# Altium integrated library Zarlink Logic Switch.IntLib: 25 symbols
Pins are listed as number, name and electrical type; pins without a type are passive.

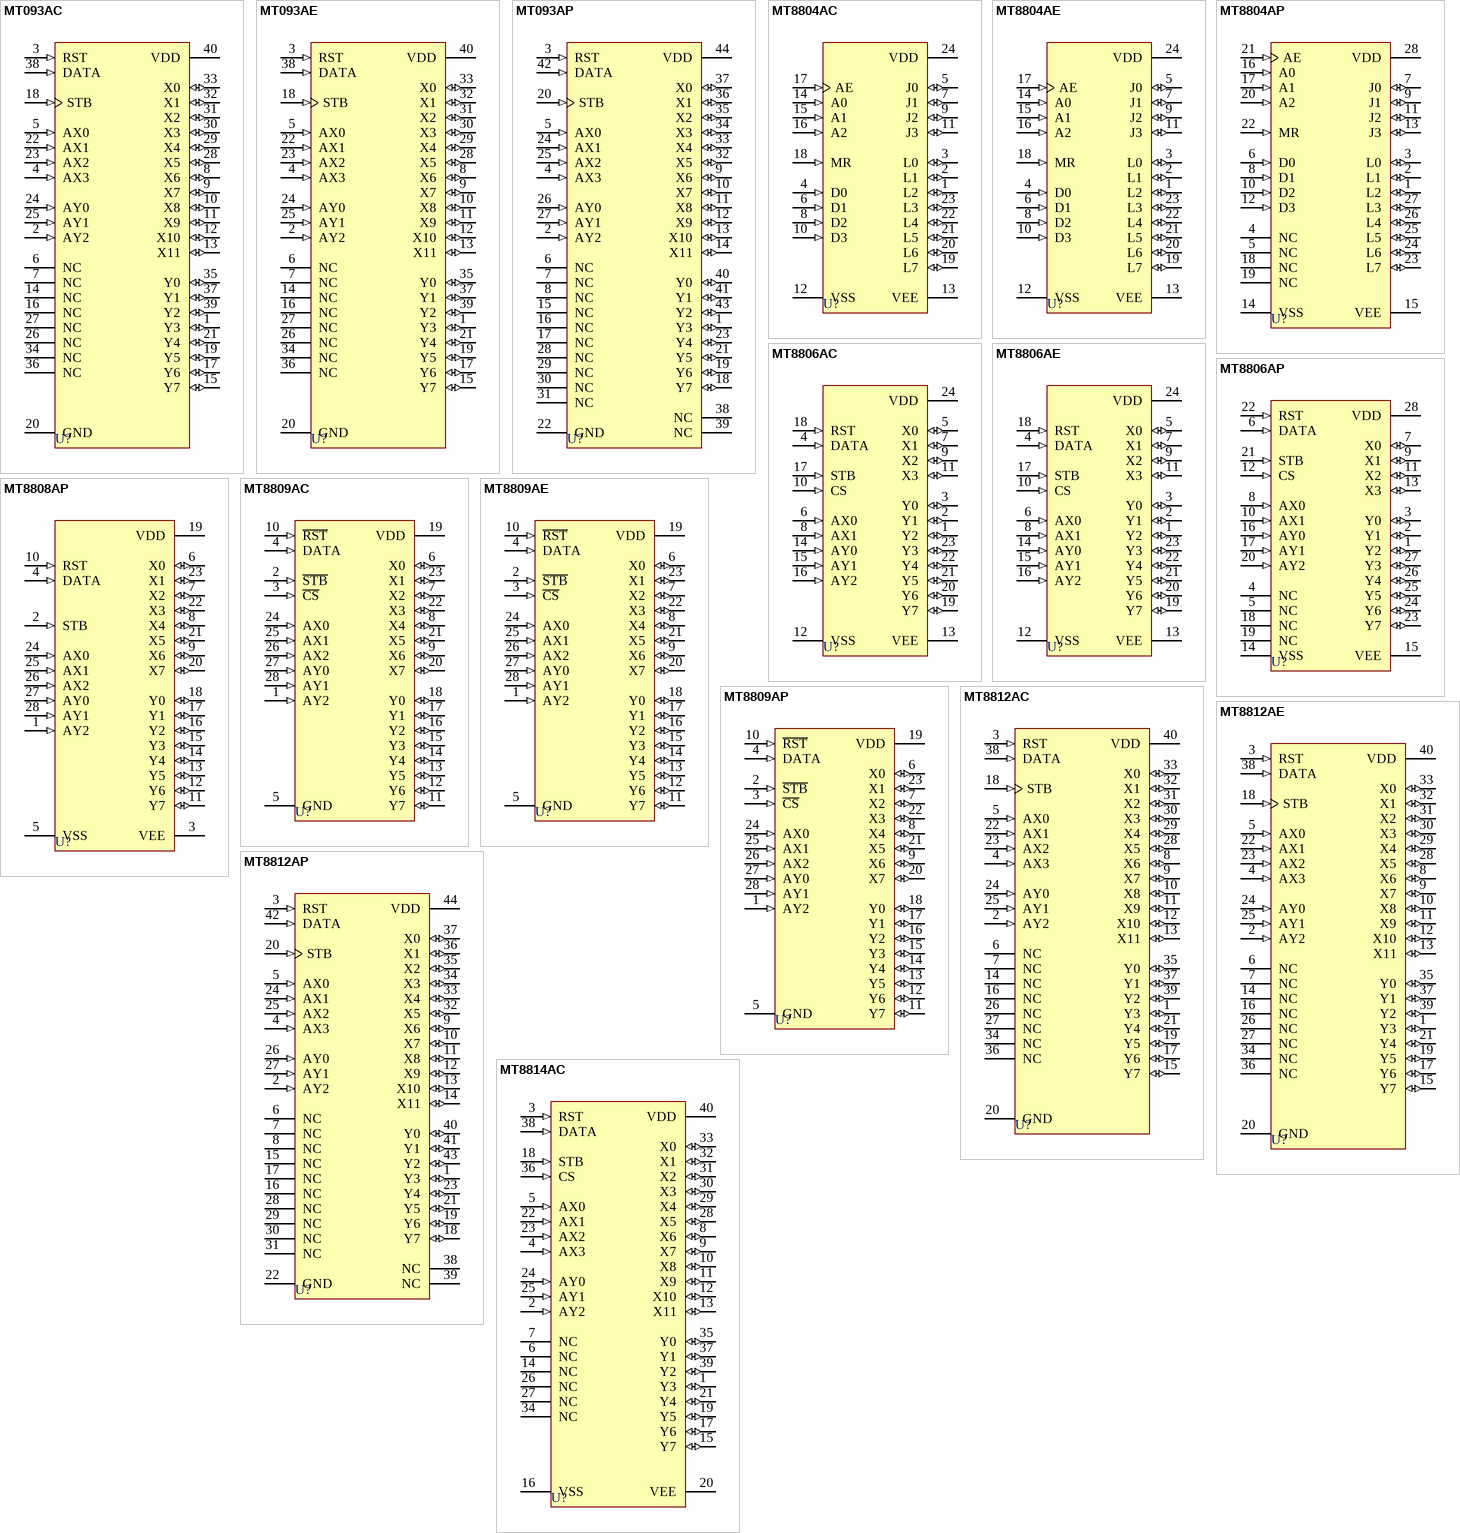
[diagram p0: symbols MT093AC to MT8814AC]

## MT093AC
designator U?
8 X 12 Analog Switch Array; Published: 8-Jun-2000; LatestRevisionDate: 17-Jul-2002; LatestRevisionNote: Re-released for DXP Platform.; DatasheetVersion: Issue 1 January 1990; PackageVersion: 1995; PackageReference: CDIP40; Publisher: Altium Limited; PackageDescription: DIP; 40 Leads; Row Spacing 15.24 mm; Pitch 2.54 mm; Code_JEDEC: MS-011-AC; ComponentLink1Description: Manufacturer Link; ComponentLink1URL: http://products.zarlink.com
footprint CDIP40 (DIP; 40 Leads; Row Spacing 15.24 mm; Pitch 2.54 mm)
pins: 1 Y3 (io), 2 AY2 (in), 3 RST (in), 4 AX3 (in), 5 AX0 (in), 6 NC, 7 NC, 8 X6 (io), 9 X7 (io), 10 X8 (io), 11 X9 (io), 12 X10 (io), 13 X11 (io), 14 NC, 15 Y7 (io), 16 NC, 17 Y6 (io), 18 STB (in), 19 Y5 (io), 20 GND (power), 21 Y4 (io), 22 AX1 (in), 23 AX2 (in), 24 AY0 (in), 25 AY1 (in), 26 NC, 27 NC, 28 X5 (io), 29 X4 (io), 30 X3 (io), 31 X2 (io), 32 X1 (io), 33 X0 (io), 34 NC, 35 Y0 (io), 36 NC, 37 Y1 (io), 38 DATA (in), 39 Y2 (io), 40 VDD (power)

## MT093AE
designator U?
8 X 12 Analog Switch Array; Published: 8-Jun-2000; LatestRevisionDate: 17-Jul-2002; LatestRevisionNote: Re-released for DXP Platform.; DatasheetVersion: Issue 1 January 1990; PackageVersion: 1997; PackageReference: PDIP40; Publisher: Altium Limited; PackageDescription: DIP; 40 Leads; Row Spacing 15.24 mm; Pitch 2.54 mm; Code_JEDEC: MS-011-AC; ComponentLink1Description: Manufacturer Link; ComponentLink1URL: http://products.zarlink.com
footprint PDIP40 (DIP; 40 Leads; Row Spacing 15.24 mm; Pitch 2.54 mm)
pins: 1 Y3 (io), 2 AY2 (in), 3 RST (in), 4 AX3 (in), 5 AX0 (in), 6 NC, 7 NC, 8 X6 (io), 9 X7 (io), 10 X8 (io), 11 X9 (io), 12 X10 (io), 13 X11 (io), 14 NC, 15 Y7 (io), 16 NC, 17 Y6 (io), 18 STB (in), 19 Y5 (io), 20 GND (power), 21 Y4 (io), 22 AX1 (in), 23 AX2 (in), 24 AY0 (in), 25 AY1 (in), 26 NC, 27 NC, 28 X5 (io), 29 X4 (io), 30 X3 (io), 31 X2 (io), 32 X1 (io), 33 X0 (io), 34 NC, 35 Y0 (io), 36 NC, 37 Y1 (io), 38 DATA (in), 39 Y2 (io), 40 VDD (power)

## MT093AP
designator U?
8 X 12 Analog Switch Array; Published: 8-Jun-2000; LatestRevisionDate: 13-Apr-2006; LatestRevisionNote: IPC-7351 Footprint Added.; DatasheetVersion: Issue 1 January 1990; PackageVersion: 1997; PackageReference: PLCC44; Publisher: Altium Limited; PackageDescription: 44-Pin Leaded Chip Carrier 1.27 mm Pitch; Code_IPC: PLCC-44; ComponentLink1Description: Manufacturer Link; ComponentLink1URL: http://products.zarlink.com
footprint PLCC44_N (Leaded Chip Carrier, 44-Leads, Body 16.6x16.6mm, Pitch 1.27mm, IPC Medium Density)
footprint PLCC44_L (Leaded Chip Carrier, 44-Leads, Body 16.6x16.6mm, Pitch 1.27mm, IPC High Density)
footprint PLCC44_M (Leaded Chip Carrier, 44-Leads, Body 16.6x16.6mm, Pitch 1.27mm, IPC Low Density)
pins: 1 Y3 (io), 2 AY2 (in), 3 RST (in), 4 AX3 (in), 5 AX0 (in), 6 NC, 7 NC, 8 NC, 9 X6 (io), 10 X7 (io), 11 X8 (io), 12 X9 (io), 13 X10 (io), 14 X11 (io), 15 NC, 16 NC, 17 NC, 18 Y7 (io), 19 Y6 (io), 20 STB (in), 21 Y5 (io), 22 GND (power), 23 Y4 (io), 24 AX1 (in), 25 AX2 (in), 26 AY0 (in), 27 AY1 (in), 28 NC, 29 NC, 30 NC, 31 NC, 32 X5 (io), 33 X4 (io), 34 X3 (io), 35 X2 (io), 36 X1 (io), 37 X0 (io), 38 NC, 39 NC, 40 Y0 (io), 41 Y1 (io), 42 DATA (in), 43 Y2 (io), 44 VDD (power)

## MT8804AC
designator U?
8 X 4 Analog Switch Array; ComponentAvailability: Not for New Design; Published: 8-Jun-2000; LatestRevisionDate: 17-Jul-2002; LatestRevisionNote: Re-released for DXP Platform.; DatasheetVersion: Issue 2 October 1989; PackageVersion: 1995; PackageReference: CDIP24; Publisher: Altium Limited; PackageDescription: DIP; 24 Leads; Row Spacing 15.24 mm; Pitch 2.54 mm; Code_JEDEC: MS-011-AA; ComponentLink1Description: Manufacturer Link; ComponentLink1URL: http://products.zarlink.com; ComponentLink2Description: Datasheet; ComponentLink2URL: http://assets.zarlink.com/DS/zarlink_MT8804A_MAR_97.pdf; ComponentLink3Description: Discontinuation Notice; ComponentLink3URL: http://assets.zarlink.com/OC/MT8804_Obsolescence_Notice___Customer.doc
footprint CDIP24 (DIP; 24 Leads; Row Spacing 15.24 mm; Pitch 2.54 mm)
pins: 1 L2 (io), 2 L1 (io), 3 L0 (io), 4 D0 (in), 5 J0 (io), 6 D1 (in), 7 J1 (io), 8 D2 (in), 9 J2 (io), 10 D3 (in), 11 J3 (io), 12 VSS (power), 13 VEE (power), 14 A0 (in), 15 A1 (in), 16 A2 (in), 17 AE (in), 18 MR (in), 19 L7 (io), 20 L6 (io), 21 L5 (io), 22 L4 (io), 23 L3 (io), 24 VDD (power)

## MT8804AE
designator U?
8 X 4 Analog Switch Array; ComponentAvailability: Not for New Design; Published: 8-Jun-2000; LatestRevisionDate: 17-Jul-2002; LatestRevisionNote: Re-released for DXP Platform.; DatasheetVersion: Issue 2 October 1989; PackageVersion: 1997; PackageReference: PDIP24; Publisher: Altium Limited; PackageDescription: DIP; 24 Leads; Row Spacing 15.24 mm; Pitch 2.54 mm; Code_JEDEC: MS-011-AA; ComponentLink1Description: Manufacturer Link; ComponentLink1URL: http://products.zarlink.com; ComponentLink2Description: Datasheet; ComponentLink2URL: http://assets.zarlink.com/DS/zarlink_MT8804A_MAR_97.pdf; ComponentLink3Description: Discontinuation Notice; ComponentLink3URL: http://assets.zarlink.com/OC/MT8804_Obsolescence_Notice___Customer.doc
footprint PDIP24 (DIP; 24 Leads; Row Spacing 15.24 mm; Pitch 2.54 mm)
pins: 1 L2 (io), 2 L1 (io), 3 L0 (io), 4 D0 (in), 5 J0 (io), 6 D1 (in), 7 J1 (io), 8 D2 (in), 9 J2 (io), 10 D3 (in), 11 J3 (io), 12 VSS (power), 13 VEE (power), 14 A0 (in), 15 A1 (in), 16 A2 (in), 17 AE (in), 18 MR (in), 19 L7 (io), 20 L6 (io), 21 L5 (io), 22 L4 (io), 23 L3 (io), 24 VDD (power)

## MT8804AP
designator U?
8 X 4 Analog Switch Array; ComponentAvailability: Not for New Design; Published: 8-Jun-2000; LatestRevisionDate: 13-Apr-2006; LatestRevisionNote: IPC-7351 Footprint Added.; DatasheetVersion: Issue 2 October 1989; PackageVersion: 1997; PackageReference: PLCC28; Publisher: Altium Limited; PackageDescription: 28-Pin Leaded Chip Carrier 1.27 mm Pitch; Code_IPC: PLCC-28; ComponentLink1Description: Manufacturer Link; ComponentLink1URL: http://products.zarlink.com; ComponentLink2Description: Datasheet; ComponentLink2URL: http://assets.zarlink.com/DS/zarlink_MT8804A_MAR_97.pdf; ComponentLink3Description: Discontinuation Notice; ComponentLink3URL: http://assets.zarlink.com/OC/MT8804_Obsolescence_Notice___Customer.doc
footprint PLCC28_N (Leaded Chip Carrier, 28-Leads, Body 11.5x11.5mm, Pitch 1.27mm, IPC Medium Density)
footprint PLCC28_L (Leaded Chip Carrier, 28-Leads, Body 11.5x11.5mm, Pitch 1.27mm, IPC High Density)
footprint PLCC28_M (Leaded Chip Carrier, 28-Leads, Body 11.5x11.5mm, Pitch 1.27mm, IPC Low Density)
pins: 1 L2 (io), 2 L1 (io), 3 L0 (io), 4 NC, 5 NC, 6 D0 (in), 7 J0 (io), 8 D1 (in), 9 J1 (io), 10 D2 (in), 11 J2 (io), 12 D3 (in), 13 J3 (io), 14 VSS (power), 15 VEE (power), 16 A0 (in), 17 A1 (in), 18 NC, 19 NC, 20 A2 (in), 21 AE (in), 22 MR (in), 23 L7 (io), 24 L6 (io), 25 L5 (io), 26 L4 (io), 27 L3 (io), 28 VDD (power)

## MT8806AC
designator U?
8 X 4 Analog Switch Array; Published: 8-Jun-2000; LatestRevisionDate: 17-Jul-2002; LatestRevisionNote: Re-released for DXP Platform.; DatasheetVersion: Issue 2 November 1988; PackageVersion: 1995; PackageReference: CDIP24; Publisher: Altium Limited; PackageDescription: DIP; 24 Leads; Row Spacing 15.24 mm; Pitch 2.54 mm; Code_JEDEC: MS-011-AA; ComponentLink1Description: Manufacturer Link; ComponentLink1URL: http://products.zarlink.com; ComponentLink2Description: Datasheet; ComponentLink2URL: http://assets.zarlink.com/DS/zarlink_MT8806_MAY_05.pdf
footprint CDIP24 (DIP; 24 Leads; Row Spacing 15.24 mm; Pitch 2.54 mm)
pins: 1 Y2 (io), 2 Y1 (io), 3 Y0 (io), 4 DATA (in), 5 X0 (io), 6 AX0 (in), 7 X1 (io), 8 AX1 (in), 9 X2 (io), 10 CS (in), 11 X3 (io), 12 VSS (power), 13 VEE (power), 14 AY0 (in), 15 AY1 (in), 16 AY2 (in), 17 STB (in), 18 RST (in), 19 Y7 (io), 20 Y6 (io), 21 Y5 (io), 22 Y4 (io), 23 Y3 (io), 24 VDD (power)

## MT8806AE
designator U?
8 X 4 Analog Switch Array; Published: 8-Jun-2000; LatestRevisionDate: 17-Jul-2002; LatestRevisionNote: Re-released for DXP Platform.; DatasheetVersion: Issue 2 November 1988; PackageVersion: 1997; PackageReference: PDIP24; Publisher: Altium Limited; PackageDescription: DIP; 24 Leads; Row Spacing 15.24 mm; Pitch 2.54 mm; Code_JEDEC: MS-011-AA; ComponentLink1Description: Manufacturer Link; ComponentLink1URL: http://products.zarlink.com; ComponentLink2Description: Datasheet; ComponentLink2URL: http://assets.zarlink.com/DS/zarlink_MT8806_MAY_05.pdf
footprint PDIP24 (DIP; 24 Leads; Row Spacing 15.24 mm; Pitch 2.54 mm)
pins: 1 Y2 (io), 2 Y1 (io), 3 Y0 (io), 4 DATA (in), 5 X0 (io), 6 AX0 (in), 7 X1 (io), 8 AX1 (in), 9 X2 (io), 10 CS (in), 11 X3 (io), 12 VSS (power), 13 VEE (power), 14 AY0 (in), 15 AY1 (in), 16 AY2 (in), 17 STB (in), 18 RST (in), 19 Y7 (io), 20 Y6 (io), 21 Y5 (io), 22 Y4 (io), 23 Y3 (io), 24 VDD (power)

## MT8806AP
designator U?
8 X 4 Analog Switch Array; Published: 8-Jun-2000; LatestRevisionDate: 13-Apr-2006; LatestRevisionNote: IPC-7351 Footprint Added.; DatasheetVersion: Issue 2 November 1988; PackageVersion: 1997; PackageReference: PLCC28; Publisher: Altium Limited; PackageDescription: 28-Pin Leaded Chip Carrier 1.27 mm Pitch; Code_IPC: PLCC-28; ComponentLink1Description: Manufacturer Link; ComponentLink1URL: http://products.zarlink.com; ComponentLink2Description: Datasheet; ComponentLink2URL: http://assets.zarlink.com/DS/zarlink_MT8806_MAY_05.pdf
footprint PLCC28_N (Leaded Chip Carrier, 28-Leads, Body 11.5x11.5mm, Pitch 1.27mm, IPC Medium Density)
footprint PLCC28_L (Leaded Chip Carrier, 28-Leads, Body 11.5x11.5mm, Pitch 1.27mm, IPC High Density)
footprint PLCC28_M (Leaded Chip Carrier, 28-Leads, Body 11.5x11.5mm, Pitch 1.27mm, IPC Low Density)
pins: 1 Y2 (io), 2 Y1 (io), 3 Y0 (io), 4 NC, 5 NC, 6 DATA (in), 7 X0 (io), 8 AX0 (in), 9 X1 (io), 10 AX1 (in), 11 X2 (io), 12 CS (in), 13 X3 (io), 14 VSS (power), 15 VEE (power), 16 AY0 (in), 17 AY1 (in), 18 NC, 19 NC, 20 AY2 (in), 21 STB (in), 22 RST (in), 23 Y7 (io), 24 Y6 (io), 25 Y5 (io), 26 Y4 (io), 27 Y3 (io), 28 VDD (power)

## MT8808AP
designator U?
8 X 8 Analog Switch Array; Published: 8-Jun-2000; LatestRevisionDate: 13-Apr-2006; LatestRevisionNote: IPC-7351 Footprint Added.; DatasheetVersion: Issue 3 May 1997; PackageVersion: 1997; PackageReference: PLCC28; Publisher: Altium Limited; PackageDescription: 28-Pin Leaded Chip Carrier 1.27 mm Pitch; Code_IPC: PLCC-28; ComponentLink1Description: Manufacturer Link; ComponentLink1URL: http://products.zarlink.com; ComponentLink2Description: Datasheet; ComponentLink2URL: http://assets.zarlink.com/DS/zarlink_MT8808_MAY_05.pdf
footprint PLCC28_N (Leaded Chip Carrier, 28-Leads, Body 11.5x11.5mm, Pitch 1.27mm, IPC Medium Density)
footprint PLCC28_L (Leaded Chip Carrier, 28-Leads, Body 11.5x11.5mm, Pitch 1.27mm, IPC High Density)
footprint PLCC28_M (Leaded Chip Carrier, 28-Leads, Body 11.5x11.5mm, Pitch 1.27mm, IPC Low Density)
pins: 1 AY2 (in), 2 STB (in), 3 VEE (power), 4 DATA (in), 5 VSS (power), 6 X0 (io), 7 X2 (io), 8 X4 (io), 9 X6 (io), 10 RST (in), 11 Y7 (io), 12 Y6 (io), 13 Y5 (io), 14 Y4 (io), 15 Y3 (io), 16 Y2 (io), 17 Y1 (io), 18 Y0 (io), 19 VDD (power), 20 X7 (io), 21 X5 (io), 22 X3 (io), 23 X1 (io), 24 AX0 (in), 25 AX1 (in), 26 AX2 (in), 27 AY0 (in), 28 AY1 (in)

## MT8809AC
designator U?
8 X 8 Analog Switch Array; Published: 8-Jun-2000; LatestRevisionDate: 17-Jul-2002; LatestRevisionNote: Re-released for DXP Platform.; DatasheetVersion: Issue 2 November 1988; PackageVersion: 1995; PackageReference: CDIP28; Publisher: Altium Limited; PackageDescription: DIP; 28 Leads; Row Spacing 15.24 mm; Pitch 2.54 mm; ComponentLink1Description: Manufacturer Link; ComponentLink1URL: http://products.zarlink.com; ComponentLink2Description: Datasheet; ComponentLink2URL: http://assets.zarlink.com/DS/zarlink_MT8809_NOV_04.pdf
footprint CDIP28 (DIP; 28 Leads; Row Spacing 15.24 mm; Pitch 2.54 mm)
pins: 1 AY2 (in), 2 ~{STB} (in), 3 ~{CS} (in), 4 DATA (in), 5 GND (power), 6 X0 (io), 7 X2 (io), 8 X4 (io), 9 X6 (io), 10 ~{RST} (in), 11 Y7 (io), 12 Y6 (io), 13 Y5 (io), 14 Y4 (io), 15 Y3 (io), 16 Y2 (io), 17 Y1 (io), 18 Y0 (io), 19 VDD (power), 20 X7 (io), 21 X5 (io), 22 X3 (io), 23 X1 (io), 24 AX0 (in), 25 AX1 (in), 26 AX2 (in), 27 AY0 (in), 28 AY1 (in)

## MT8809AE
designator U?
8 X 8 Analog Switch Array; Published: 8-Jun-2000; LatestRevisionDate: 17-Jul-2002; LatestRevisionNote: Re-released for DXP Platform.; DatasheetVersion: Issue 2 November 1988; PackageVersion: 1997; PackageReference: PDIP28; Publisher: Altium Limited; PackageDescription: DIP; 28 Leads; Row Spacing 15.24 mm; Pitch 2.54 mm; Code_JEDEC: MS-011-AB; ComponentLink1Description: Manufacturer Link; ComponentLink1URL: http://products.zarlink.com; ComponentLink2Description: Datasheet; ComponentLink2URL: http://assets.zarlink.com/DS/zarlink_MT8809_NOV_04.pdf
footprint PDIP28 (DIP; 28 Leads; Row Spacing 15.24 mm; Pitch 2.54 mm)
pins: 1 AY2 (in), 2 ~{STB} (in), 3 ~{CS} (in), 4 DATA (in), 5 GND (power), 6 X0 (io), 7 X2 (io), 8 X4 (io), 9 X6 (io), 10 ~{RST} (in), 11 Y7 (io), 12 Y6 (io), 13 Y5 (io), 14 Y4 (io), 15 Y3 (io), 16 Y2 (io), 17 Y1 (io), 18 Y0 (io), 19 VDD (power), 20 X7 (io), 21 X5 (io), 22 X3 (io), 23 X1 (io), 24 AX0 (in), 25 AX1 (in), 26 AX2 (in), 27 AY0 (in), 28 AY1 (in)

## MT8809AP
designator U?
8 X 8 Analog Switch Array; Published: 8-Jun-2000; LatestRevisionDate: 13-Apr-2006; LatestRevisionNote: IPC-7351 Footprint Added.; DatasheetVersion: Issue 2 November 1988; PackageVersion: 1997; PackageReference: PLCC28; Publisher: Altium Limited; PackageDescription: 28-Pin Leaded Chip Carrier 1.27 mm Pitch; Code_IPC: PLCC-28; ComponentLink1Description: Manufacturer Link; ComponentLink1URL: http://products.zarlink.com; ComponentLink2Description: Datasheet; ComponentLink2URL: http://assets.zarlink.com/DS/zarlink_MT8809_NOV_04.pdf
footprint PLCC28_N (Leaded Chip Carrier, 28-Leads, Body 11.5x11.5mm, Pitch 1.27mm, IPC Medium Density)
footprint PLCC28_L (Leaded Chip Carrier, 28-Leads, Body 11.5x11.5mm, Pitch 1.27mm, IPC High Density)
footprint PLCC28_M (Leaded Chip Carrier, 28-Leads, Body 11.5x11.5mm, Pitch 1.27mm, IPC Low Density)
pins: 1 AY2 (in), 2 ~{STB} (in), 3 ~{CS} (in), 4 DATA (in), 5 GND (power), 6 X0 (io), 7 X2 (io), 8 X4 (io), 9 X6 (io), 10 ~{RST} (in), 11 Y7 (io), 12 Y6 (io), 13 Y5 (io), 14 Y4 (io), 15 Y3 (io), 16 Y2 (io), 17 Y1 (io), 18 Y0 (io), 19 VDD (power), 20 X7 (io), 21 X5 (io), 22 X3 (io), 23 X1 (io), 24 AX0 (in), 25 AX1 (in), 26 AX2 (in), 27 AY0 (in), 28 AY1 (in)

## MT8812AC
designator U?
8 X 12 Analog Switch Array; Published: 8-Jun-2000; LatestRevisionDate: 17-Jul-2002; LatestRevisionNote: Re-released for DXP Platform.; DatasheetVersion: Issue 5 November 1988; PackageVersion: 1995; PackageReference: CDIP40; Publisher: Altium Limited; PackageDescription: DIP; 40 Leads; Row Spacing 15.24 mm; Pitch 2.54 mm; Code_JEDEC: MS-011-AC; ComponentLink1Description: Manufacturer Link; ComponentLink1URL: http://products.zarlink.com; ComponentLink2Description: Datasheet; ComponentLink2URL: http://assets.zarlink.com/DS/zarlink_MT8812_MAY_05.pdf
footprint CDIP40 (DIP; 40 Leads; Row Spacing 15.24 mm; Pitch 2.54 mm)
pins: 1 Y3 (io), 2 AY2 (in), 3 RST (in), 4 AX3 (in), 5 AX0 (in), 6 NC, 7 NC, 8 X6 (io), 9 X7 (io), 10 X8 (io), 11 X9 (io), 12 X10 (io), 13 X11 (io), 14 NC, 15 Y7 (io), 16 NC, 17 Y6 (io), 18 STB (in), 19 Y5 (io), 20 GND (power), 21 Y4 (io), 22 AX1 (in), 23 AX2 (in), 24 AY0 (in), 25 AY1 (in), 26 NC, 27 NC, 28 X5 (io), 29 X4 (io), 30 X3 (io), 31 X2 (io), 32 X1 (io), 33 X0 (io), 34 NC, 35 Y0 (io), 36 NC, 37 Y1 (io), 38 DATA (in), 39 Y2 (io), 40 VDD (power)

## MT8812AE
designator U?
8 X 12 Analog Switch Array; Published: 8-Jun-2000; LatestRevisionDate: 17-Jul-2002; LatestRevisionNote: Re-released for DXP Platform.; DatasheetVersion: Issue 5 November 1988; PackageVersion: 1997; PackageReference: PDIP40; Publisher: Altium Limited; PackageDescription: DIP; 40 Leads; Row Spacing 15.24 mm; Pitch 2.54 mm; Code_JEDEC: MS-011-AC; ComponentLink1Description: Manufacturer Link; ComponentLink1URL: http://products.zarlink.com; ComponentLink2Description: Datasheet; ComponentLink2URL: http://assets.zarlink.com/DS/zarlink_MT8812_MAY_05.pdf
footprint PDIP40 (DIP; 40 Leads; Row Spacing 15.24 mm; Pitch 2.54 mm)
pins: 1 Y3 (io), 2 AY2 (in), 3 RST (in), 4 AX3 (in), 5 AX0 (in), 6 NC, 7 NC, 8 X6 (io), 9 X7 (io), 10 X8 (io), 11 X9 (io), 12 X10 (io), 13 X11 (io), 14 NC, 15 Y7 (io), 16 NC, 17 Y6 (io), 18 STB (in), 19 Y5 (io), 20 GND (power), 21 Y4 (io), 22 AX1 (in), 23 AX2 (in), 24 AY0 (in), 25 AY1 (in), 26 NC, 27 NC, 28 X5 (io), 29 X4 (io), 30 X3 (io), 31 X2 (io), 32 X1 (io), 33 X0 (io), 34 NC, 35 Y0 (io), 36 NC, 37 Y1 (io), 38 DATA (in), 39 Y2 (io), 40 VDD (power)

## MT8812AP
designator U?
8 X 12 Analog Switch Array; Published: 8-Jun-2000; LatestRevisionDate: 13-Apr-2006; LatestRevisionNote: IPC-7351 Footprint Added.; DatasheetVersion: Issue 5 November 1988; PackageVersion: 1997; PackageReference: PLCC44; Publisher: Altium Limited; PackageDescription: 44-Pin Leaded Chip Carrier 1.27 mm Pitch; Code_IPC: PLCC-44; ComponentLink1Description: Manufacturer Link; ComponentLink1URL: http://products.zarlink.com; ComponentLink2Description: Datasheet; ComponentLink2URL: http://assets.zarlink.com/DS/zarlink_MT8812_MAY_05.pdf
footprint PLCC44_N (Leaded Chip Carrier, 44-Leads, Body 16.6x16.6mm, Pitch 1.27mm, IPC Medium Density)
footprint PLCC44_L (Leaded Chip Carrier, 44-Leads, Body 16.6x16.6mm, Pitch 1.27mm, IPC High Density)
footprint PLCC44_M (Leaded Chip Carrier, 44-Leads, Body 16.6x16.6mm, Pitch 1.27mm, IPC Low Density)
pins: 1 Y3 (io), 2 AY2 (in), 3 RST (in), 4 AX3 (in), 5 AX0 (in), 6 NC, 7 NC, 8 NC, 9 X6 (io), 10 X7 (io), 11 X8 (io), 12 X9 (io), 13 X10 (io), 14 X11 (io), 15 NC, 16 NC, 17 NC, 18 Y7 (io), 19 Y6 (io), 20 STB (in), 21 Y5 (io), 22 GND (power), 23 Y4 (io), 24 AX1 (in), 25 AX2 (in), 26 AY0 (in), 27 AY1 (in), 28 NC, 29 NC, 30 NC, 31 NC, 32 X5 (io), 33 X4 (io), 34 X3 (io), 35 X2 (io), 36 X1 (io), 37 X0 (io), 38 NC, 39 NC, 40 Y0 (io), 41 Y1 (io), 42 DATA (in), 43 Y2 (io), 44 VDD (power)

## MT8814AC
designator U?
8 X 12 Analog Switch Array; Published: 8-Jun-2000; LatestRevisionDate: 17-Jul-2002; LatestRevisionNote: Re-released for DXP Platform.; DatasheetVersion: Issue 2 November 1988; PackageVersion: 1995; PackageReference: CDIP40; Publisher: Altium Limited; PackageDescription: DIP; 40 Leads; Row Spacing 15.24 mm; Pitch 2.54 mm; Code_JEDEC: MS-011-AC; ComponentLink1Description: Manufacturer Link; ComponentLink1URL: http://products.zarlink.com; ComponentLink2Description: Datasheet; ComponentLink2URL: http://assets.zarlink.com/DS/zarlink_MT8814_MAY_05.pdf
footprint CDIP40 (DIP; 40 Leads; Row Spacing 15.24 mm; Pitch 2.54 mm)
pins: 1 Y3 (io), 2 AY2 (in), 3 RST (in), 4 AX3 (in), 5 AX0 (in), 6 NC, 7 NC, 8 X6 (io), 9 X7 (io), 10 X8 (io), 11 X9 (io), 12 X10 (io), 13 X11 (io), 14 NC, 15 Y7 (io), 16 VSS (power), 17 Y6 (io), 18 STB (in), 19 Y5 (io), 20 VEE (power), 21 Y4 (io), 22 AX1 (in), 23 AX2 (in), 24 AY0 (in), 25 AY1 (in), 26 NC, 27 NC, 28 X5 (io), 29 X4 (io), 30 X3 (io), 31 X2 (io), 32 X1 (io), 33 X0 (io), 34 NC, 35 Y0 (io), 36 CS (in), 37 Y1 (io), 38 DATA (in), 39 Y2 (io), 40 VDD (power)

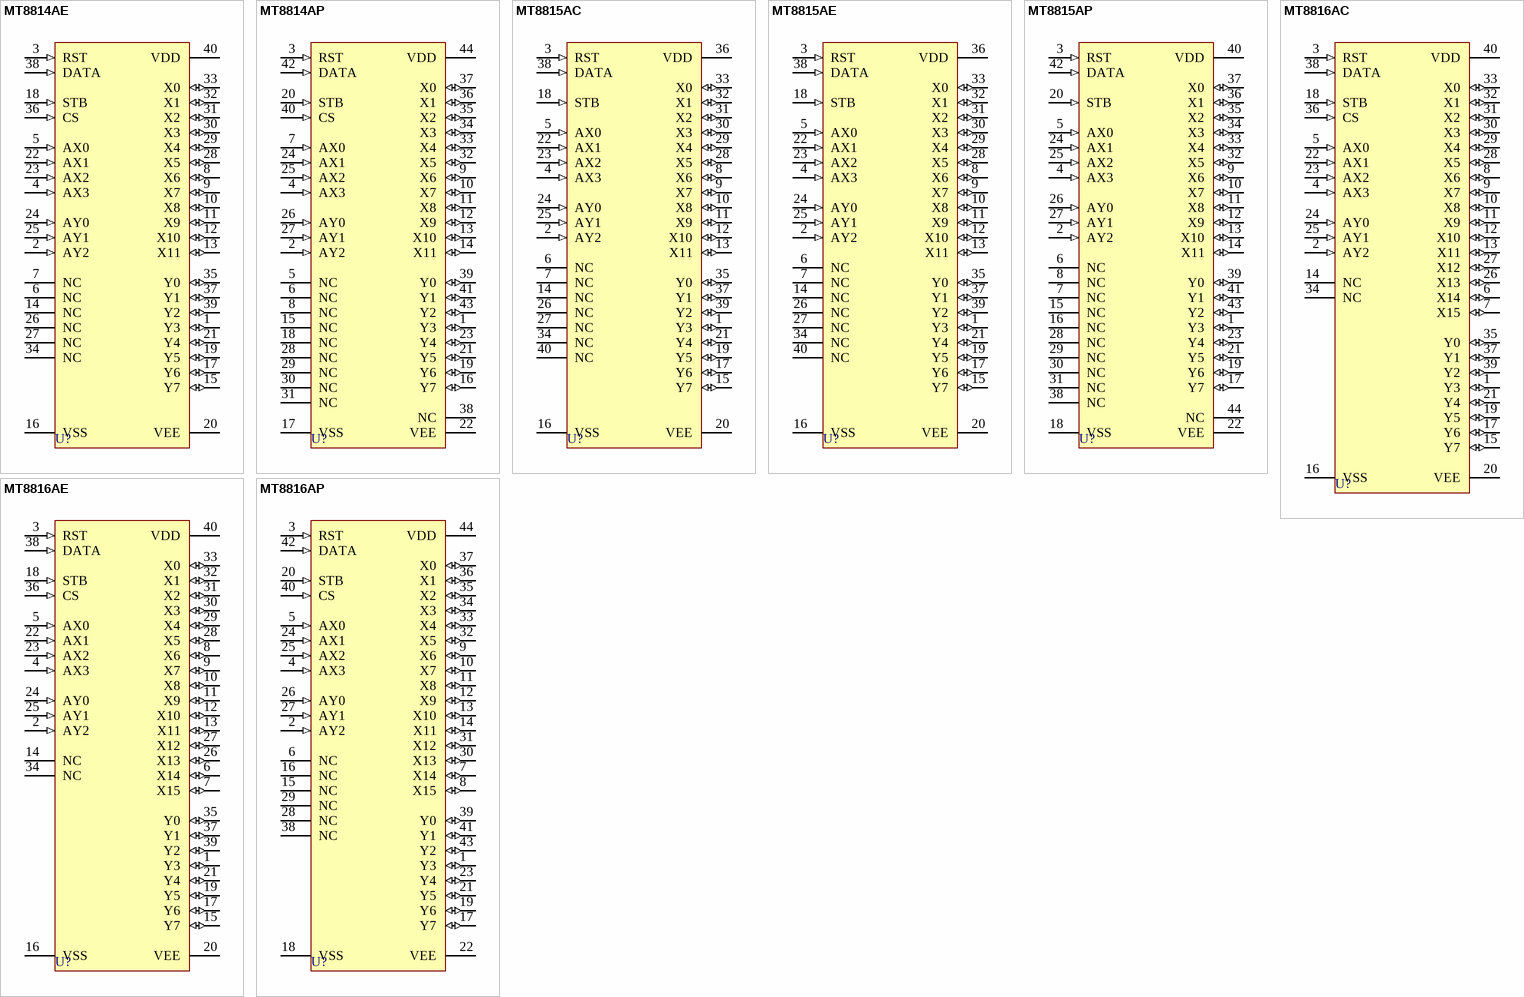
[diagram p1: symbols MT8814AE to MT8816AP]

## MT8814AE
designator U?
8 X 12 Analog Switch Array; Published: 8-Jun-2000; LatestRevisionDate: 17-Jul-2002; LatestRevisionNote: Re-released for DXP Platform.; DatasheetVersion: Issue 2 November 1988; PackageVersion: 1997; PackageReference: PDIP40; Publisher: Altium Limited; PackageDescription: DIP; 40 Leads; Row Spacing 15.24 mm; Pitch 2.54 mm; Code_JEDEC: MS-011-AC; ComponentLink1Description: Manufacturer Link; ComponentLink1URL: http://products.zarlink.com; ComponentLink2Description: Datasheet; ComponentLink2URL: http://assets.zarlink.com/DS/zarlink_MT8814_MAY_05.pdf
footprint PDIP40 (DIP; 40 Leads; Row Spacing 15.24 mm; Pitch 2.54 mm)
pins: 1 Y3 (io), 2 AY2 (in), 3 RST (in), 4 AX3 (in), 5 AX0 (in), 6 NC, 7 NC, 8 X6 (io), 9 X7 (io), 10 X8 (io), 11 X9 (io), 12 X10 (io), 13 X11 (io), 14 NC, 15 Y7 (io), 16 VSS (power), 17 Y6 (io), 18 STB (in), 19 Y5 (io), 20 VEE (power), 21 Y4 (io), 22 AX1 (in), 23 AX2 (in), 24 AY0 (in), 25 AY1 (in), 26 NC, 27 NC, 28 X5 (io), 29 X4 (io), 30 X3 (io), 31 X2 (io), 32 X1 (io), 33 X0 (io), 34 NC, 35 Y0 (io), 36 CS (in), 37 Y1 (io), 38 DATA (in), 39 Y2 (io), 40 VDD (power)

## MT8814AP
designator U?
8 X 12 Analog Switch Array; Published: 8-Jun-2000; LatestRevisionDate: 13-Apr-2006; LatestRevisionNote: IPC-7351 Footprint Added.; DatasheetVersion: Issue 2 November 1988; PackageVersion: 1997; PackageReference: PLCC44; Publisher: Altium Limited; PackageDescription: 44-Pin Leaded Chip Carrier 1.27 mm Pitch; Code_IPC: PLCC-44; ComponentLink1Description: Manufacturer Link; ComponentLink1URL: http://products.zarlink.com; ComponentLink2Description: Datasheet; ComponentLink2URL: http://assets.zarlink.com/DS/zarlink_MT8814_MAY_05.pdf
footprint PLCC44_N (Leaded Chip Carrier, 44-Leads, Body 16.6x16.6mm, Pitch 1.27mm, IPC Medium Density)
footprint PLCC44_L (Leaded Chip Carrier, 44-Leads, Body 16.6x16.6mm, Pitch 1.27mm, IPC High Density)
footprint PLCC44_M (Leaded Chip Carrier, 44-Leads, Body 16.6x16.6mm, Pitch 1.27mm, IPC Low Density)
pins: 1 Y3 (io), 2 AY2 (in), 3 RST (in), 4 AX3 (in), 5 NC, 6 NC, 7 AX0 (in), 8 NC, 9 X6 (io), 10 X7 (io), 11 X8 (io), 12 X9 (io), 13 X10 (io), 14 X11 (io), 15 NC, 16 Y7 (io), 17 VSS (power), 18 NC, 19 Y6 (io), 20 STB (in), 21 Y5 (io), 22 VEE (power), 23 Y4 (io), 24 AX1 (in), 25 AX2 (in), 26 AY0 (in), 27 AY1 (in), 28 NC, 29 NC, 30 NC, 31 NC, 32 X5 (io), 33 X4 (io), 34 X3 (io), 35 X2 (io), 36 X1 (io), 37 X0 (io), 38 NC, 39 Y0 (io), 40 CS (in), 41 Y1 (io), 42 DATA (in), 43 Y2 (io), 44 VDD (power)

## MT8815AC
designator U?
8 X 12 Analog Switch Array; Published: 8-Jun-2000; LatestRevisionDate: 17-Jul-2002; LatestRevisionNote: Re-released for DXP Platform.; DatasheetVersion: Issue 1 November 1988; PackageVersion: 1995; PackageReference: CDIP40; Publisher: Altium Limited; PackageDescription: DIP; 40 Leads; Row Spacing 15.24 mm; Pitch 2.54 mm; Code_JEDEC: MS-011-AC; ComponentLink1Description: Manufacturer Link; ComponentLink1URL: http://products.zarlink.com; ComponentLink2Description: Datasheet; ComponentLink2URL: http://assets.zarlink.com/DS/zarlink_MT8815_MAR_97.pdf
footprint CDIP40 (DIP; 40 Leads; Row Spacing 15.24 mm; Pitch 2.54 mm)
pins: 1 Y3 (io), 2 AY2 (in), 3 RST (in), 4 AX3 (in), 5 AX0 (in), 6 NC, 7 NC, 8 X6 (io), 9 X7 (io), 10 X8 (io), 11 X9 (io), 12 X10 (io), 13 X11 (io), 14 NC, 15 Y7 (io), 16 VSS (power), 17 Y6 (io), 18 STB (in), 19 Y5 (io), 20 VEE (power), 21 Y4 (io), 22 AX1 (in), 23 AX2 (in), 24 AY0 (in), 25 AY1 (in), 26 NC, 27 NC, 28 X5 (io), 29 X4 (io), 30 X3 (io), 31 X2 (io), 32 X1 (io), 33 X0 (io), 34 NC, 35 Y0 (io), 36 VDD (power), 37 Y1 (io), 38 DATA (in), 39 Y2 (io), 40 NC

## MT8815AE
designator U?
8 X 12 Analog Switch Array; Published: 8-Jun-2000; LatestRevisionDate: 17-Jul-2002; LatestRevisionNote: Re-released for DXP Platform.; DatasheetVersion: Issue 1 November 1988; PackageVersion: 1997; PackageReference: PDIP40; Publisher: Altium Limited; PackageDescription: DIP; 40 Leads; Row Spacing 15.24 mm; Pitch 2.54 mm; Code_JEDEC: MS-011-AC; ComponentLink1Description: Manufacturer Link; ComponentLink1URL: http://products.zarlink.com; ComponentLink2Description: Datasheet; ComponentLink2URL: http://assets.zarlink.com/DS/zarlink_MT8815_MAR_97.pdf
footprint PDIP40 (DIP; 40 Leads; Row Spacing 15.24 mm; Pitch 2.54 mm)
pins: 1 Y3 (io), 2 AY2 (in), 3 RST (in), 4 AX3 (in), 5 AX0 (in), 6 NC, 7 NC, 8 X6 (io), 9 X7 (io), 10 X8 (io), 11 X9 (io), 12 X10 (io), 13 X11 (io), 14 NC, 15 Y7 (io), 16 VSS (power), 17 Y6 (io), 18 STB (in), 19 Y5 (io), 20 VEE (power), 21 Y4 (io), 22 AX1 (in), 23 AX2 (in), 24 AY0 (in), 25 AY1 (in), 26 NC, 27 NC, 28 X5 (io), 29 X4 (io), 30 X3 (io), 31 X2 (io), 32 X1 (io), 33 X0 (io), 34 NC, 35 Y0 (io), 36 VDD (power), 37 Y1 (io), 38 DATA (in), 39 Y2 (io), 40 NC

## MT8815AP
designator U?
8 X 12 Analog Switch Array; Published: 8-Jun-2000; LatestRevisionDate: 13-Apr-2006; LatestRevisionNote: IPC-7351 Footprint Added.; DatasheetVersion: Issue 1 November 1988; PackageVersion: 1997; PackageReference: PLCC44; Publisher: Altium Limited; PackageDescription: 44-Pin Leaded Chip Carrier 1.27 mm Pitch; Code_IPC: PLCC-44; ComponentLink1Description: Manufacturer Link; ComponentLink1URL: http://products.zarlink.com; ComponentLink2Description: Datasheet; ComponentLink2URL: http://assets.zarlink.com/DS/zarlink_MT8815_MAR_97.pdf
footprint PLCC44_N (Leaded Chip Carrier, 44-Leads, Body 16.6x16.6mm, Pitch 1.27mm, IPC Medium Density)
footprint PLCC44_L (Leaded Chip Carrier, 44-Leads, Body 16.6x16.6mm, Pitch 1.27mm, IPC High Density)
footprint PLCC44_M (Leaded Chip Carrier, 44-Leads, Body 16.6x16.6mm, Pitch 1.27mm, IPC Low Density)
pins: 1 Y3 (io), 2 AY2 (in), 3 RST (in), 4 AX3 (in), 5 AX0 (in), 6 NC, 7 NC, 8 NC, 9 X6 (io), 10 X7 (io), 11 X8 (io), 12 X9 (io), 13 X10 (io), 14 X11 (io), 15 NC, 16 NC, 17 Y7 (io), 18 VSS (power), 19 Y6 (io), 20 STB (in), 21 Y5 (io), 22 VEE (power), 23 Y4 (io), 24 AX1 (in), 25 AX2 (in), 26 AY0 (in), 27 AY1 (in), 28 NC, 29 NC, 30 NC, 31 NC, 32 X5 (io), 33 X4 (io), 34 X3 (io), 35 X2 (io), 36 X1 (io), 37 X0 (io), 38 NC, 39 Y0 (io), 40 VDD (power), 41 Y1 (io), 42 DATA (in), 43 Y2 (io), 44 NC

## MT8816AC
designator U?
8 X 16 Analog Switch Array; Published: 8-Jun-2000; LatestRevisionDate: 17-Jul-2002; LatestRevisionNote: Re-released for DXP Platform.; DatasheetVersion: Issue 2 November 1988; PackageVersion: 1995; PackageReference: CDIP40; Publisher: Altium Limited; PackageDescription: DIP; 40 Leads; Row Spacing 15.24 mm; Pitch 2.54 mm; Code_JEDEC: MS-011-AC; ComponentLink1Description: Manufacturer Link; ComponentLink1URL: http://products.zarlink.com; ComponentLink2Description: Datasheet; ComponentLink2URL: http://assets.zarlink.com/DS/zarlink_MT8816_FEB_05.pdf
footprint CDIP40 (DIP; 40 Leads; Row Spacing 15.24 mm; Pitch 2.54 mm)
pins: 1 Y3 (io), 2 AY2 (in), 3 RST (in), 4 AX3 (in), 5 AX0 (in), 6 X14 (io), 7 X15 (io), 8 X6 (io), 9 X7 (io), 10 X8 (io), 11 X9 (io), 12 X10 (io), 13 X11 (io), 14 NC, 15 Y7 (io), 16 VSS (power), 17 Y6 (io), 18 STB (in), 19 Y5 (io), 20 VEE (power), 21 Y4 (io), 22 AX1 (in), 23 AX2 (in), 24 AY0 (in), 25 AY1 (in), 26 X13 (io), 27 X12 (io), 28 X5 (io), 29 X4 (io), 30 X3 (io), 31 X2 (io), 32 X1 (io), 33 X0 (io), 34 NC, 35 Y0 (io), 36 CS (in), 37 Y1 (io), 38 DATA (in), 39 Y2 (io), 40 VDD (power)

## MT8816AE
designator U?
8 X 16 Analog Switch Array; Published: 8-Jun-2000; LatestRevisionDate: 17-Jul-2002; LatestRevisionNote: Re-released for DXP Platform.; DatasheetVersion: Issue 2 November 1988; PackageVersion: 1997; PackageReference: PDIP40; Publisher: Altium Limited; PackageDescription: DIP; 40 Leads; Row Spacing 15.24 mm; Pitch 2.54 mm; Code_JEDEC: MS-011-AC; ComponentLink1Description: Manufacturer Link; ComponentLink1URL: http://products.zarlink.com; ComponentLink2Description: Datasheet; ComponentLink2URL: http://assets.zarlink.com/DS/zarlink_MT8816_FEB_05.pdf
footprint PDIP40 (DIP; 40 Leads; Row Spacing 15.24 mm; Pitch 2.54 mm)
pins: 1 Y3 (io), 2 AY2 (in), 3 RST (in), 4 AX3 (in), 5 AX0 (in), 6 X14 (io), 7 X15 (io), 8 X6 (io), 9 X7 (io), 10 X8 (io), 11 X9 (io), 12 X10 (io), 13 X11 (io), 14 NC, 15 Y7 (io), 16 VSS (power), 17 Y6 (io), 18 STB (in), 19 Y5 (io), 20 VEE (power), 21 Y4 (io), 22 AX1 (in), 23 AX2 (in), 24 AY0 (in), 25 AY1 (in), 26 X13 (io), 27 X12 (io), 28 X5 (io), 29 X4 (io), 30 X3 (io), 31 X2 (io), 32 X1 (io), 33 X0 (io), 34 NC, 35 Y0 (io), 36 CS (in), 37 Y1 (io), 38 DATA (in), 39 Y2 (io), 40 VDD (power)

## MT8816AP
designator U?
8 X 16 Analog Switch Array; Published: 8-Jun-2000; LatestRevisionDate: 13-Apr-2006; LatestRevisionNote: IPC-7351 Footprint Added.; DatasheetVersion: Issue 2 November 1988; PackageVersion: 1997; PackageReference: PLCC44; Publisher: Altium Limited; PackageDescription: 44-Pin Leaded Chip Carrier 1.27 mm Pitch; Code_IPC: PLCC-44; ComponentLink1Description: Manufacturer Link; ComponentLink1URL: http://products.zarlink.com; ComponentLink2Description: Datasheet; ComponentLink2URL: http://assets.zarlink.com/DS/zarlink_MT8816_FEB_05.pdf
footprint PLCC44_N (Leaded Chip Carrier, 44-Leads, Body 16.6x16.6mm, Pitch 1.27mm, IPC Medium Density)
footprint PLCC44_L (Leaded Chip Carrier, 44-Leads, Body 16.6x16.6mm, Pitch 1.27mm, IPC High Density)
footprint PLCC44_M (Leaded Chip Carrier, 44-Leads, Body 16.6x16.6mm, Pitch 1.27mm, IPC Low Density)
pins: 1 Y3 (io), 2 AY2 (in), 3 RST (in), 4 AX3 (in), 5 AX0 (in), 6 NC, 7 X14 (io), 8 X15 (io), 9 X6 (io), 10 X7 (io), 11 X8 (io), 12 X9 (io), 13 X10 (io), 14 X11 (io), 15 NC, 16 NC, 17 Y7 (io), 18 VSS (power), 19 Y6 (io), 20 STB (in), 21 Y5 (io), 22 VEE (power), 23 Y4 (io), 24 AX1 (in), 25 AX2 (in), 26 AY0 (in), 27 AY1 (in), 28 NC, 29 NC, 30 X13 (io), 31 X12 (io), 32 X5 (io), 33 X4 (io), 34 X3 (io), 35 X2 (io), 36 X1 (io), 37 X0 (io), 38 NC, 39 Y0 (io), 40 CS (in), 41 Y1 (io), 42 DATA (in), 43 Y2 (io), 44 VDD (power)